# EAGLE library part ARDUINO_SHIELD (library SKAARHOJ)
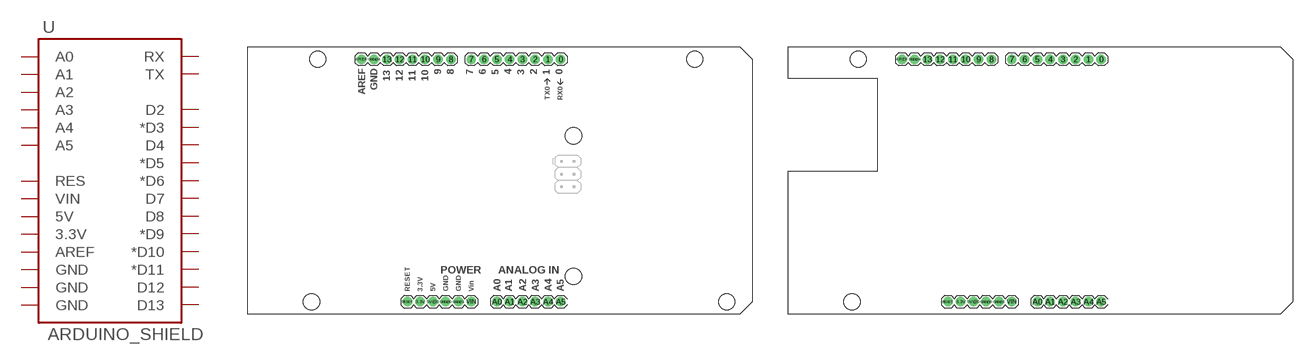
[diagram p2: symbol with the pads of ARDUINO_BOXSHIELD; footprints ARDUINO_BOXSHIELD, ARDUINO_BOXSHIELD_NOHOLES]

Designator prefix U

## ARDUINO_SHIELDBOXSHIELD  [ARDUINO_BOXSHIELD]
0  RX
1  TX
2  D2
3  *D3
3.3V  3.3V
4  D4
5  *D5
5V@0  5V
6  *D6
7  D7
8  D8
9  *D9
10  *D10
11  *D11
12  D12
13  D13
A0  A0
A1  A1
A2  A2
A3  A3
A4  A4
A5  A5
AREF  AREF
GND@0  GND
GND@1  GND
GND@4  GND
RESET  RES
VIN  VIN

## ARDUINO_SHIELD  [ARDUINO_BOXSHIELD_NOHOLES]
Pads as for ARDUINO_BOXSHIELD

## Footprint ARDUINO_BOXSHIELD (pad centres in mm)
drill 1.016 pad 1.88: 0 62.23,50.8; 1 59.69,50.8; 2 57.15,50.8; 3 54.61,50.8; 3.3V 34.29,2.54; 4 52.07,50.8; 5 49.53,50.8; 5V@0 36.83,2.54; 6 46.99,50.8; 7 44.45,50.8; 8 40.386,50.8; 9 37.846,50.8; 10 35.306,50.8; 11 32.766,50.8; 12 30.226,50.8; 13 27.686,50.8; A0 49.53,2.54; A1 52.07,2.54; A2 54.61,2.54; A3 57.15,2.54; A4 59.69,2.54; A5 62.23,2.54; AREF 22.606,50.8; GND@0 39.37,2.54; GND@1 41.91,2.54; GND@4 25.146,50.8; RESET 31.75,2.54; VIN 44.45,2.54
hole 3.2 at 13.97,50.8
hole 3.2 at 12.7,2.54
hole 3.2 at 64.77,35.56
hole 3.2 at 64.77,7.62
hole 3.2 at 88.9,50.8
hole 3.2 at 95.25,2.54

## Footprint ARDUINO_BOXSHIELD_NOHOLES (pad centres in mm)
drill 1.016 pad 1.88: 0 62.23,50.8; 1 59.69,50.8; 2 57.15,50.8; 3 54.61,50.8; 3.3V 34.29,2.54; 4 52.07,50.8; 5 49.53,50.8; 5V@0 36.83,2.54; 6 46.99,50.8; 7 44.45,50.8; 8 40.386,50.8; 9 37.846,50.8; 10 35.306,50.8; 11 32.766,50.8; 12 30.226,50.8; 13 27.686,50.8; A0 49.53,2.54; A1 52.07,2.54; A2 54.61,2.54; A3 57.15,2.54; A4 59.69,2.54; A5 62.23,2.54; AREF 22.606,50.8; GND@0 39.37,2.54; GND@1 41.91,2.54; GND@4 25.146,50.8; RESET 31.75,2.54; VIN 44.45,2.54
hole 3.2 at 13.97,50.8
hole 3.2 at 12.7,2.54